# EAGLE library part CONN_1824750000 (library X16-ESC-Adapter)
ESC Adapter to Thruster
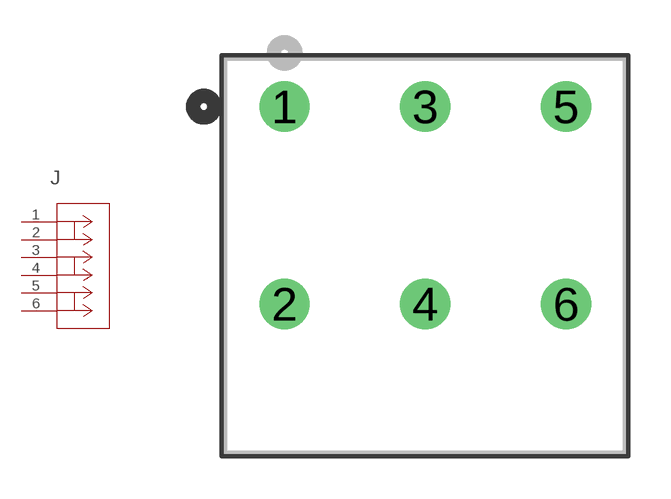
[diagram p2: symbol with the pads of CONN3_1824750000_WED; footprint CONN3_1824750000_WED]

Designator prefix J

## CONN_1824750000 (COPYRIGHT: Copyright (C) 2023 Ultra Librarian. All rights reserved.; DIGIKEY_PART_NUMBER_1: 281-2111-ND; MANUFACTURER_PART_NUMBER: 1824750000; MFR_NAME: Weidmuller)  [CONN3_1824750000_WED]
1  1  pas
2  2  pas
3  3  pas
4  4  pas
5  5  pas
6  6  pas

## Footprint CONN3_1824750000_WED (pad centres in mm)
drill 1.194 pad 1.702: 1 0,0; 2 0,-7.01; 3 5.004,0; 4 5.004,-7.01; 5 10.008,0; 6 10.008,-7.01